# Altium footprint library shortfinder.PcbLib: 21 footprints (part 1 of 2)
Each footprint in its own frame and in the unit in brackets; x right, y up, seen from the top. Pads: shape width x height; smd on the part's side, far side on the other; paste and mask are expansions set on the pad; w line width, h text height; cw(c..) or ccw(c..) is an arc to the next point about the centre after c.
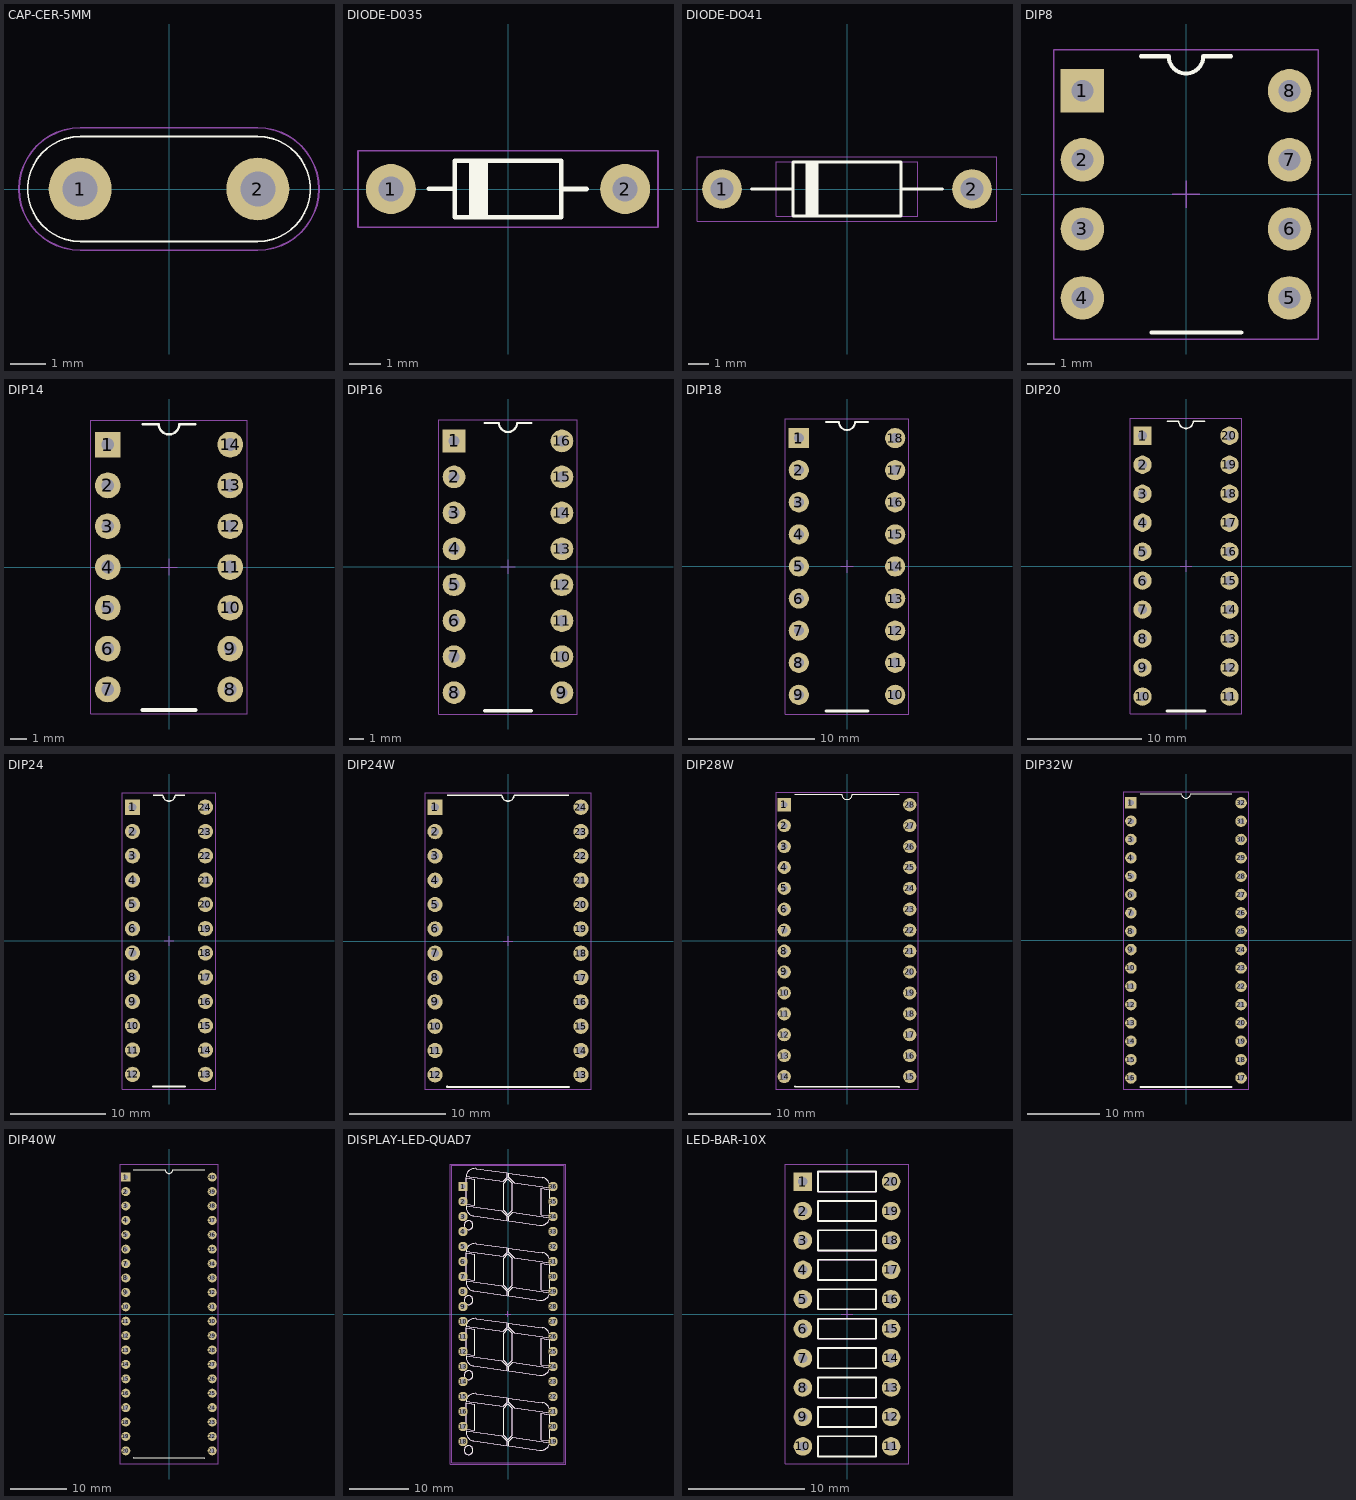
[diagram p0: the footprints below, top view; thin cyan lines are the x and y axes]

## CAP-CER-5MM [mm]
pads (2):
  round 1.8 hole 1 mask+0.1: 1(-2.54,0) 2(2.54,0)
Top Overlay:
  lines w0.05: -2.54,-1.5 cw(c-2.54,0) -2.54,1.5 2.54,1.5 cw(c2.54,0) 2.54,-1.5 -2.54,-1.5
Mechanical 15:
  lines w0.05: -2.54,-1.75 cw(c-2.54,0) -2.54,1.75 2.54,1.75 cw(c2.54,0) 2.54,-1.75 -2.54,-1.75
3D body "User Library-Cap ceramic F=5mm.STEP": height 5.5, standoff -3.5, extent -2.8,-1.25 2.8,1.25

## DIODE-D035 [mm]
pads (2):
  round 1.6 hole 0.8 mask+0.1: 1(-3.75,0) 2(3.75,0)
Top Overlay:
  rectangle: -1.25,-0.9 -0.637,0.925
  lines w0.15: -2.531,0.008 -1.706,0.008 ; 2.525,0 1.7,0 1.7,-0.9 ; 1.7,-0.9 -1.7,-0.9 -1.7,0.9 1.7,0.9 1.7,-0.9
Mechanical 13:
  lines w0.05: -2.425,0 -1.675,0 ; 1.7,0 2.525,0 ; -1.675,-0.9 0.4,-0.9 1.7,-0.9 1.7,0.9 0.4,0.9 -1.675,0.9 -1.675,-0.9
Mechanical 15:
  lines w0.05: -4.8,-1.225 0.175,-1.225 4.8,-1.225 4.8,-0.05 4.8,1.225 -4.8,1.225 -4.8,-1.225

## DIODE-DO41 [mm]
pads (2):
  round 1.9 hole 1.1 mask+0.1: 1(-6,0) 2(6,0)
Top Overlay:
  rectangle: -2,-1.3 -1.375,1.325
  lines w0.15: -4.575,0 -2.6,0 ; 2.6,0 4.575,0 ; 3.15,0 3.8,0 ; -2.6,-1.3 -2.6,1.3 0,1.3 2.6,1.3 2.6,-1.3 0,-1.3 -2.6,-1.3
Mechanical 13:
  lines w0.05: -3.4,-1.3 0,-1.3 3.4,-1.3 3.4,0 3.4,1.3 0,1.3 -3.4,1.3 -3.4,0 -3.4,-1.3
Mechanical 15:
  lines w0.05: -7.2,-1.55 -7.2,1.55 7.2,1.55 7.2,-1.55 -7.2,-1.55

## DIP8 [mm]
pads (8):
  rect 1.6x1.6 hole 0.8 mask+0.1: 1(-3.81,3.81)
  round 1.6 hole 0.8 mask+0.1: 2(-3.81,1.27) 3(-3.81,-1.27) 4(-3.81,-3.81) 5(3.81,-3.81) 6(3.81,-1.27) 7(3.81,1.27) 8(3.81,3.81)
Top Overlay:
  lines w0.15: -1.651,5.08 -0.635,5.08 ccw(c0,5.08) 0.635,5.08 1.651,5.08 ; -1.27,-5.08 2.032,-5.08
Mechanical 15:
  lines w0.05: -0.5,0 0,0 ; 0,-0.5 0,0 ; 0,0.5 0,0 ; 0.5,0 0,0 ; -4.875,-5.325 4.875,-5.325 4.875,5.325 -4.875,5.325 -4.875,-5.325
3D body "User Library-DIP-8P-M01.step": height 4.36, standoff -3, extent -3.935,-4.7 3.935,4.7

## DIP14 [mm]
pads (14):
  rect 1.6x1.6 hole 0.8 mask+0.1: 1(-3.81,7.62)
  round 1.6 hole 0.8 mask+0.1: 2(-3.81,5.08) 3(-3.81,2.54) 4(-3.81,0) 5(-3.81,-2.54) 6(-3.81,-5.08) 7(-3.81,-7.62) 8(3.81,-7.62) 9(3.81,-5.08) 10(3.81,-2.54) 11(3.81,0) 12(3.81,2.54) 13(3.81,5.08) 14(3.81,7.62)
Top Overlay:
  lines w0.15: -1.651,8.89 -0.635,8.89 ccw(c0,8.89) 0.635,8.89 1.651,8.89
  lines w0.254: -1.651,-8.89 1.651,-8.89
Mechanical 15:
  lines w0.05: -0.5,0 0,0 ; 0,-0.5 0,0 ; 0,0.5 0,0 ; 0.5,0 0,0 ; -4.875,-9.15 4.875,-9.15 4.875,9.15 -4.875,9.15 -4.875,-9.15
3D body "User Library-DIP-14P-M02.step": height 4.36, standoff -3, extent -3.933,-9.8 3.937,9.8

## DIP16 [mm]
pads (16):
  rect 1.6x1.6 hole 0.8 mask+0.1: 1(-3.81,8.89)
  round 1.6 hole 0.8 mask+0.1: 2(-3.81,6.35) 3(-3.81,3.81) 4(-3.81,1.27) 5(-3.81,-1.27) 6(-3.81,-3.81) 7(-3.81,-6.35) 8(-3.81,-8.89) 9(3.81,-8.89) 10(3.81,-6.35) 11(3.81,-3.81) 12(3.81,-1.27) 13(3.81,1.27) 14(3.81,3.81) 15(3.81,6.35) 16(3.81,8.89)
Top Overlay:
  lines w0.15: -1.651,10.16 -0.635,10.16 ccw(c0,10.16) 0.635,10.16 1.651,10.16
  lines w0.254: -1.651,-10.16 1.651,-10.16
Mechanical 15:
  lines w0.05: -0.5,0 0,0 ; 0,-0.5 0,0 ; 0,0.5 0,0 ; 0.5,0 0,0 ; -4.875,-10.4 -4.875,10.4 4.875,10.4 4.875,-10.4 -4.875,-10.4
3D body "User Library-DIP-16P-M03.step": height 4.66, standoff -3, extent -3.935,-9.7 3.935,9.7

## DIP18 [mm]
pads (18):
  rect 1.6x1.6 hole 0.8 mask+0.1: 1(-3.81,10.16)
  round 1.6 hole 0.8 mask+0.1: 2(-3.81,7.62) 3(-3.81,5.08) 4(-3.81,2.54) 5(-3.81,0) 6(-3.81,-2.54) 7(-3.81,-5.08) 8(-3.81,-7.62) 9(-3.81,-10.16) 10(3.81,-10.16) 11(3.81,-7.62) 12(3.81,-5.08) 13(3.81,-2.54) 14(3.81,0) 15(3.81,2.54) 16(3.81,5.08) 17(3.81,7.62) 18(3.81,10.16)
Top Overlay:
  lines w0.15: -1.651,11.43 -0.635,11.43 ccw(c0,11.43) 0.635,11.43 1.651,11.43
  lines w0.254: -1.651,-11.43 1.651,-11.43
Mechanical 15:
  lines w0.05: -0.5,0 0,0 ; 0,-0.5 0,0 ; 0,0.5 0,0 ; 0.5,0 0,0 ; -4.875,-11.675 4.875,-11.675 4.875,11.675 -4.875,11.675 -4.875,-11.675
3D body "User Library-DIP-18P-M02.step": height 5, standoff -3, extent -3.935,-11 3.935,11

## DIP20 [mm]
pads (20):
  rect 1.6x1.6 hole 0.8 mask+0.1: 1(-3.81,11.43)
  round 1.6 hole 0.8 mask+0.1: 2(-3.81,8.89) 3(-3.81,6.35) 4(-3.81,3.81) 5(-3.81,1.27) 6(-3.81,-1.27) 7(-3.81,-3.81) 8(-3.81,-6.35) 9(-3.81,-8.89) 10(-3.81,-11.43) 11(3.81,-11.43) 12(3.81,-8.89) 13(3.81,-6.35) 14(3.81,-3.81) 15(3.81,-1.27) 16(3.81,1.27) 17(3.81,3.81) 18(3.81,6.35) 19(3.81,8.89) 20(3.81,11.43)
Top Overlay:
  lines w0.15: -1.651,12.7 -0.635,12.7 ccw(c0,12.7) 0.635,12.7 1.651,12.7
  lines w0.254: -1.651,-12.7 1.651,-12.7
Mechanical 15:
  lines w0.05: -0.5,0 0,0 ; 0,-0.5 0,0 ; 0,0.5 0,0 ; 0.5,0 0,0 ; -4.875,-12.95 -4.875,12.95 4.875,12.95 4.875,-12.95 -4.875,-12.95
3D body "User Library-DIP-20P-M01.step": height 4.36, standoff -3, extent -3.935,-12.3 3.935,12.3

## DIP24 [mm]
pads (24):
  rect 1.6x1.6 hole 0.8 mask+0.1: 1(-3.81,13.97)
  round 1.6 hole 0.8 mask+0.1: 2(-3.81,11.43) 3(-3.81,8.89) 4(-3.81,6.35) 5(-3.81,3.81) 6(-3.81,1.27) 7(-3.81,-1.27) 8(-3.81,-3.81) 9(-3.81,-6.35) 10(-3.81,-8.89) 11(-3.81,-11.43) 12(-3.81,-13.97) 13(3.81,-13.97) 14(3.81,-11.43) 15(3.81,-8.89) 16(3.81,-6.35) 17(3.81,-3.81) 18(3.81,-1.27) 19(3.81,1.27) 20(3.81,3.81) 21(3.81,6.35) 22(3.81,8.89) 23(3.81,11.43) 24(3.81,13.97)
Top Overlay:
  lines w0.15: -1.651,15.24 -0.635,15.24 ccw(c0,15.24) 0.635,15.24 1.651,15.24
  lines w0.254: -1.651,-15.24 1.651,-15.24
Mechanical 15:
  lines w0.05: -0.5,0 0,0 ; 0,-0.5 0,0 ; 0,0.5 0,0 ; 0.5,0 0,0 ; -4.875,-15.5 4.875,-15.5 4.875,15.5 -4.875,15.5 -4.875,-15.5
3D body "User Library-DIP-24P-M03.step": height 4.36, standoff -3, extent -3.935,-14.85 3.935,14.85

## DIP24W [mm]
pads (24):
  rect 1.6x1.6 hole 0.8 mask+0.1: 1(-7.62,13.97)
  round 1.6 hole 0.8 mask+0.1: 2(-7.62,11.43) 3(-7.62,8.89) 4(-7.62,6.35) 5(-7.62,3.81) 6(-7.62,1.27) 7(-7.62,-1.27) 8(-7.62,-3.81) 9(-7.62,-6.35) 10(-7.62,-8.89) 11(-7.62,-11.43) 12(-7.62,-13.97) 13(7.62,-13.97) 14(7.62,-11.43) 15(7.62,-8.89) 16(7.62,-6.35) 17(7.62,-3.81) 18(7.62,-1.27) 19(7.62,1.27) 20(7.62,3.81) 21(7.62,6.35) 22(7.62,8.89) 23(7.62,11.43) 24(7.62,13.97)
Top Overlay:
  lines w0.15: -6.325,15.245 -0.635,15.245 ccw(c0,15.245) 0.635,15.245 6.325,15.245
  lines w0.254: -6.325,-15.2 6.325,-15.24
Mechanical 15:
  lines w0.05: -0.5,0 0,0 ; 0,-0.5 0,0 ; 0,0.5 0,0 ; 0.5,0 0,0 ; -8.675,-15.45 8.675,-15.45 8.675,15.5 -8.675,15.5 -8.675,-15.45
3D body "User Library-DIP-24P-M02.step": height 5, standoff -3, extent -7.745,-15.1 7.745,15.1

## DIP28W [mm]
pads (28):
  rect 1.6x1.6 hole 0.8 mask+0.1: 1(-7.62,16.51)
  round 1.6 hole 0.8 mask+0.1: 2(-7.62,13.97) 3(-7.62,11.43) 4(-7.62,8.89) 5(-7.62,6.35) 6(-7.62,3.81) 7(-7.62,1.27) 8(-7.62,-1.27) 9(-7.62,-3.81) 10(-7.62,-6.35) 11(-7.62,-8.89) 12(-7.62,-11.43) 13(-7.62,-13.97) 14(-7.62,-16.51) 15(7.62,-16.51) 16(7.62,-13.97) 17(7.62,-11.43) 18(7.62,-8.89) 19(7.62,-6.35) 20(7.62,-3.81) 21(7.62,-1.27) 22(7.62,1.27) 23(7.62,3.81) 24(7.62,6.35) 25(7.62,8.89) 26(7.62,11.43) 27(7.62,13.97) 28(7.62,16.51)
Top Overlay:
  lines w0.15: -6.325,17.785 -0.635,17.785 ccw(c0,17.785) 0.635,17.785 6.325,17.785
  lines w0.254: -6.325,-17.74 6.325,-17.78
Mechanical 15:
  lines w0.05: -8.675,-18.025 8.675,-18.025 8.675,18.04 -8.675,18.04 -8.675,-18.025

## DIP32W [mm]
pads (32):
  rect 1.6x1.6 hole 0.8 mask+0.1: 1(-7.62,19.05)
  round 1.6 hole 0.8 mask+0.1: 2(-7.62,16.51) 3(-7.62,13.97) 4(-7.62,11.43) 5(-7.62,8.89) 6(-7.62,6.35) 7(-7.62,3.81) 8(-7.62,1.27) 9(-7.62,-1.27) 10(-7.62,-3.81) 11(-7.62,-6.35) 12(-7.62,-8.89) 13(-7.62,-11.43) 14(-7.62,-13.97) 15(-7.62,-16.51) 16(-7.62,-19.05) 17(7.62,-19.05) 18(7.62,-16.51) 19(7.62,-13.97) 20(7.62,-11.43) 21(7.62,-8.89) 22(7.62,-6.35) 23(7.62,-3.81) 24(7.62,-1.27) 25(7.62,1.27) 26(7.62,3.81) 27(7.62,6.35) 28(7.62,8.89) 29(7.62,11.43) 30(7.62,13.97) 31(7.62,16.51) 32(7.62,19.05)
Top Overlay:
  lines w0.15: -6.325,20.325 -0.635,20.325 ccw(c0,20.325) 0.635,20.325 6.325,20.325
  lines w0.254: -6.325,-20.28 6.325,-20.32
Mechanical 15:
  lines w0.05: -8.675,-20.575 -8.675,20.58 8.675,20.58 8.675,-20.575 -8.675,-20.575

## DIP40W [mm]
pads (40):
  rect 1.6x1.6 hole 0.8 mask+0.1: 1(-7.62,24.13)
  round 1.6 hole 0.8 mask+0.1: 2(-7.62,21.59) 3(-7.62,19.05) 4(-7.62,16.51) 5(-7.62,13.97) 6(-7.62,11.43) 7(-7.62,8.89) 8(-7.62,6.35) 9(-7.62,3.81) 10(-7.62,1.27) 11(-7.62,-1.27) 12(-7.62,-3.81) 13(-7.62,-6.35) 14(-7.62,-8.89) 15(-7.62,-11.43) 16(-7.62,-13.97) 17(-7.62,-16.51) 18(-7.62,-19.05) 19(-7.62,-21.59) 20(-7.62,-24.13) 21(7.62,-24.13) 22(7.62,-21.59) 23(7.62,-19.05) 24(7.62,-16.51) 25(7.62,-13.97) 26(7.62,-11.43) 27(7.62,-8.89) 28(7.62,-6.35) 29(7.62,-3.81) 30(7.62,-1.27) 31(7.62,1.27) 32(7.62,3.81) 33(7.62,6.35) 34(7.62,8.89) 35(7.62,11.43) 36(7.62,13.97) 37(7.62,16.51) 38(7.62,19.05) 39(7.62,21.59) 40(7.62,24.13)
Top Overlay:
  lines w0.15: -6.325,25.405 -0.635,25.405 ccw(c0,25.405) 0.635,25.405 6.325,25.405
  lines w0.254: -6.325,-25.36 6.325,-25.4
Mechanical 15:
  lines w0.05: -8.675,-26.45 8.675,-26.45 8.675,26.45 -8.675,26.45 -8.675,-26.45
3D body "User Library-DIP-40P-M02.step": height 5, standoff -3, extent -7.745,-26.2 7.745,26.2

## DISPLAY-LED-QUAD7 [mm]
pads (36):
  rect 1.6x1.6 hole 0.8 mask+0.1: 1(-7.62,21.59)
  round 1.6 hole 0.8 mask+0.1: 2(-7.62,19.05) 3(-7.62,16.51) 4(-7.62,13.97) 5(-7.62,11.43) 6(-7.62,8.89) 7(-7.62,6.35) 8(-7.62,3.81) 9(-7.62,1.27) 10(-7.62,-1.27) 11(-7.62,-3.81) 12(-7.62,-6.35) 13(-7.62,-8.89) 14(-7.62,-11.43) 15(-7.62,-13.97) 16(-7.62,-16.51) 17(-7.62,-19.05) 18(-7.62,-21.59) 19(7.62,-21.59) 20(7.62,-19.05) 21(7.62,-16.51) 22(7.62,-13.97) 23(7.62,-11.43) 24(7.62,-8.89) 25(7.62,-6.35) 26(7.62,-3.81) 27(7.62,-1.27) 28(7.62,1.27) 29(7.62,3.81) 30(7.62,6.35) 31(7.62,8.89) 32(7.62,11.43) 33(7.62,13.97) 34(7.62,16.51) 35(7.62,19.05) 36(7.62,21.59)
Top Overlay:
  circle w0.15: c-6.678,15.04 r0.75
  circle w0.15: c-6.678,2.34 r0.75
  circle w0.15: c-6.678,-10.36 r0.75
  circle w0.15: c-6.678,-23.06 r0.75
  lines w0.15: -7.1,-19.79 -1.081,-20.636 -0.15,-21.567 -0.15,-22.281 -5.809,-21.486 cw(c-5.6,-20.001) -7.086,-19.792 ; -7.1,-7.09 -1.081,-7.936 -0.15,-8.867 -0.15,-9.581 -5.809,-8.786 cw(c-5.6,-7.301) -7.086,-7.092 ; -7.1,5.61 -1.081,4.764 -0.15,3.833 -0.15,3.119 -5.809,3.914 cw(c-5.6,5.399) -7.086,5.608 ; -7.1,18.31 -1.081,17.464 -0.15,16.533 -0.15,15.819 -5.809,16.614 cw(c-5.6,18.099) -7.086,18.308 ; 5.809,-15.04 0.15,-14.245 0.15,-14.959 1.081,-15.89 7.1,-16.736 ccw(c5.6,-16.526) 5.811,-15.026 ; 5.809,-2.34 0.15,-1.545 0.15,-2.259 1.081,-3.19 7.1,-4.036 ccw(c5.6,-3.826) 5.811,-2.326 ; 5.809,10.36 0.15,11.155 0.15,10.441 1.081,9.51 7.1,8.664 ccw(c5.6,8.874) 5.811,10.374 ; 5.809,23.06 0.15,23.855 0.15,23.141 1.081,22.21 7.1,21.364 ccw(c5.6,21.574) 5.811,23.074 ; -7.1,-19.487 -5.6,-19.698 -5.6,-15.254 -7.1,-15.044 -7.1,-19.487 ; -7.1,-6.787 -5.6,-6.998 -5.6,-2.554 -7.1,-2.344 -7.1,-6.787 ; -7.1,5.913 -5.6,5.702 -5.6,10.146 -7.1,10.356 -7.1,5.913 ; -7.1,18.613 -5.6,18.402 -5.6,22.846 -7.1,23.056 -7.1,18.613 ; -7.086,-14.743 cw(c-5.6,-14.952) -5.391,-13.466 -0.15,-14.203 -0.15,-14.959 -0.815,-15.624 -7.086,-14.743 ; -7.086,-2.043 cw(c-5.6,-2.252) -5.391,-0.766 -0.15,-1.503 -0.15,-2.259 -0.815,-2.924 -7.086,-2.043 ; -7.086,10.657 cw(c-5.6,10.448) -5.391,11.934 -0.15,11.197 -0.15,10.441 -0.815,9.776 -7.086,10.657 ; -7.086,23.357 cw(c-5.6,23.148) -5.391,24.634 -0.15,23.897 -0.15,23.141 -0.815,22.476 -7.086,23.357 ; -0.75,-20.543 -0.75,-15.984 0,-15.234 0.75,-15.984 0.75,-20.543 0,-21.293 -0.75,-20.543 ; -0.75,-7.843 -0.75,-3.284 0,-2.534 0.75,-3.284 0.75,-7.843 0,-8.593 -0.75,-7.843 ; -0.75,4.857 -0.75,9.416 0,10.166 0.75,9.416 0.75,4.857 0,4.107 -0.75,4.857 ; -0.75,17.557 -0.75,22.116 0,22.866 0.75,22.116 0.75,17.557 0,16.807 -0.75,17.557 ; 0.15,-22.324 5.391,-23.06 ccw(c5.6,-21.575) 7.085,-21.784 0.815,-20.902 0.15,-21.567 0.15,-22.324 ; 0.15,-9.624 5.391,-10.36 ccw(c5.6,-8.875) 7.085,-9.084 0.815,-8.202 0.15,-8.867 0.15,-9.624 ; 0.15,3.076 5.391,2.34 ccw(c5.6,3.825) 7.085,3.616 0.815,4.498 0.15,3.833 0.15,3.076 ; 0.15,15.776 5.391,15.04 ccw(c5.6,16.525) 7.085,16.316 0.815,17.198 0.15,16.533 0.15,15.776 ; 5.6,-21.272 7.1,-21.483 7.1,-17.039 5.6,-16.829 5.6,-21.272 ; 5.6,-8.572 7.1,-8.783 7.1,-4.339 5.6,-4.129 5.6,-8.572 ; 5.6,4.128 7.1,3.917 7.1,8.361 5.6,8.571 5.6,4.128 ; 5.6,16.828 7.1,16.617 7.1,21.061 5.6,21.271 5.6,16.828
Mechanical 13:
  circle w0.05: c-6.678,-23.06 r0.75
  circle w0.05: c-6.678,-10.36 r0.75
  circle w0.05: c-6.678,2.34 r0.75
  circle w0.05: c-6.678,15.04 r0.75
  lines w0.05: -7.1,-19.79 -1.081,-20.636 -0.15,-21.567 -0.15,-22.281 -5.809,-21.486 cw(c-5.6,-20.001) -7.086,-19.792 ; -7.1,-7.09 -1.081,-7.936 -0.15,-8.867 -0.15,-9.581 -5.809,-8.786 cw(c-5.6,-7.301) -7.086,-7.092 ; -7.1,5.61 -1.081,4.764 -0.15,3.833 -0.15,3.119 -5.809,3.914 cw(c-5.6,5.399) -7.086,5.608 ; -7.1,18.31 -1.081,17.464 -0.15,16.533 -0.15,15.819 -5.809,16.614 cw(c-5.6,18.099) -7.086,18.308 ; 5.809,-15.04 0.15,-14.245 0.15,-14.959 1.081,-15.89 7.1,-16.736 ccw(c5.6,-16.526) 5.811,-15.026 ; 5.809,-2.34 0.15,-1.545 0.15,-2.259 1.081,-3.19 7.1,-4.036 ccw(c5.6,-3.826) 5.811,-2.326 ; 5.809,10.36 0.15,11.155 0.15,10.441 1.081,9.51 7.1,8.664 ccw(c5.6,8.874) 5.811,10.374 ; 5.809,23.06 0.15,23.855 0.15,23.141 1.081,22.21 7.1,21.364 ccw(c5.6,21.574) 5.811,23.074 ; -9.5,-25.15 9.5,-25.15 9.5,25.15 -9.5,25.15 -9.5,-25.15 ; -7.1,-19.487 -7.1,-15.044 -5.6,-15.254 -5.6,-19.698 -7.1,-19.487 ; -7.1,-6.787 -7.1,-2.344 -5.6,-2.554 -5.6,-6.998 -7.1,-6.787 ; -7.1,5.913 -7.1,10.356 -5.6,10.146 -5.6,5.702 -7.1,5.913 ; -7.1,18.613 -7.1,23.056 -5.6,22.846 -5.6,18.402 -7.1,18.613 ; -7.086,-14.743 cw(c-5.6,-14.952) -5.391,-13.466 -0.15,-14.203 -0.15,-14.959 -0.815,-15.624 -7.086,-14.743 ; -7.086,-2.043 cw(c-5.6,-2.252) -5.391,-0.766 -0.15,-1.503 -0.15,-2.259 -0.815,-2.924 -7.086,-2.043 ; -7.086,10.657 cw(c-5.6,10.448) -5.391,11.934 -0.15,11.197 -0.15,10.441 -0.815,9.776 -7.086,10.657 ; -7.086,23.357 cw(c-5.6,23.148) -5.391,24.634 -0.15,23.897 -0.15,23.141 -0.815,22.476 -7.086,23.357 ; -0.75,-20.543 0,-21.293 0.75,-20.543 0.75,-15.984 0,-15.234 -0.75,-15.984 -0.75,-20.543 ; -0.75,-7.843 0,-8.593 0.75,-7.843 0.75,-3.284 0,-2.534 -0.75,-3.284 -0.75,-7.843 ; -0.75,4.857 0,4.107 0.75,4.857 0.75,9.416 0,10.166 -0.75,9.416 -0.75,4.857 ; -0.75,17.557 0,16.807 0.75,17.557 0.75,22.116 0,22.866 -0.75,22.116 -0.75,17.557 ; 0.15,-22.324 0.15,-21.567 0.815,-20.902 7.085,-21.784 cw(c5.6,-21.575) 5.391,-23.06 0.15,-22.324 ; 0.15,-9.624 0.15,-8.867 0.815,-8.202 7.085,-9.084 cw(c5.6,-8.875) 5.391,-10.36 0.15,-9.624 ; 0.15,3.076 0.15,3.833 0.815,4.498 7.085,3.616 cw(c5.6,3.825) 5.391,2.34 0.15,3.076 ; 0.15,15.776 0.15,16.533 0.815,17.198 7.085,16.316 cw(c5.6,16.525) 5.391,15.04 0.15,15.776 ; 5.6,-21.272 5.6,-16.829 7.1,-17.039 7.1,-21.483 5.6,-21.272 ; 5.6,-8.572 5.6,-4.129 7.1,-4.339 7.1,-8.783 5.6,-8.572 ; 5.6,4.128 5.6,8.571 7.1,8.361 7.1,3.917 5.6,4.128 ; 5.6,16.828 5.6,21.271 7.1,21.061 7.1,16.617 5.6,16.828
Mechanical 15:
  lines w0.05: -0.5,0 0,0 ; 0,-0.5 0,0 ; 0,0.5 0,0 ; 0,0 0.5,0 ; 0.5,0 0.5,0 ; -9.75,-25.4 -9.75,25.4 9.75,25.4 9.75,-25.4 -9.75,-25.4
3D body "end-el-san Co Ltd-King Bright CA56-11.step": height 8.11, standoff -3.99, extent -9.5,-25.15 9.5,25.15

## LED-BAR-10X [mm]
pads (20):
  rect 1.6x1.6 hole 0.8 mask+0.1: 1(-3.81,11.43)
  round 1.6 hole 0.8 mask+0.1: 2(-3.81,8.89) 3(-3.81,6.35) 4(-3.81,3.81) 5(-3.81,1.27) 6(-3.81,-1.27) 7(-3.81,-3.81) 8(-3.81,-6.35) 9(-3.81,-8.89) 10(-3.81,-11.43) 11(3.81,-11.43) 12(3.81,-8.89) 13(3.81,-6.35) 14(3.81,-3.81) 15(3.81,-1.27) 16(3.81,1.27) 17(3.81,3.81) 18(3.81,6.35) 19(3.81,8.89) 20(3.81,11.43)
Top Overlay:
  lines w0.15: -2.5,-12.3 2.5,-12.3 2.5,-10.56 -2.5,-10.56 -2.5,-12.3 ; -2.5,-9.76 2.5,-9.76 2.5,-8.02 -2.5,-8.02 -2.5,-9.76 ; -2.5,-7.22 2.5,-7.22 2.5,-5.48 -2.5,-5.48 -2.5,-7.22 ; -2.5,-4.68 2.5,-4.68 2.5,-2.94 -2.5,-2.94 -2.5,-4.68 ; -2.5,-2.14 2.5,-2.14 2.5,-0.4 -2.5,-0.4 -2.5,-2.14 ; -2.5,0.4 2.5,0.4 2.5,2.14 -2.5,2.14 -2.5,0.4 ; -2.5,2.94 2.5,2.94 2.5,4.68 -2.5,4.68 -2.5,2.94 ; -2.5,5.48 2.5,5.48 2.5,7.22 -2.5,7.22 -2.5,5.48 ; -2.5,8.02 2.5,8.02 2.5,9.76 -2.5,9.76 -2.5,8.02 ; -2.5,10.56 2.5,10.56 2.5,12.3 -2.5,12.3 -2.5,10.56
Mechanical 13:
  lines w0.05: -2.5,-12.3 -2.5,-10.56 2.5,-10.56 2.5,-12.3 -2.5,-12.3 ; -2.5,-9.76 2.5,-9.76 2.5,-8.02 -2.5,-8.02 -2.5,-9.76 ; -2.5,-7.22 2.5,-7.22 2.5,-5.48 -2.5,-5.48 -2.5,-7.22 ; -2.5,-4.68 2.5,-4.68 2.5,-2.94 -2.5,-2.94 -2.5,-4.68 ; -2.5,-2.14 2.5,-2.14 2.5,-0.4 -2.5,-0.4 -2.5,-2.14 ; -2.5,0.4 2.5,0.4 2.5,2.14 -2.5,2.14 -2.5,0.4 ; -2.5,2.94 2.5,2.94 2.5,4.68 -2.5,4.68 -2.5,2.94 ; -2.5,5.48 2.5,5.48 2.5,7.22 -2.5,7.22 -2.5,5.48 ; -2.5,8.02 2.5,8.02 2.5,9.76 -2.5,9.76 -2.5,8.02 ; -2.5,10.56 2.5,10.56 2.5,12.3 -2.5,12.3 -2.5,10.56
Mechanical 15:
  lines w0.05: 0,0 0.5,0 0,0 ; 0,0 0,0.5 0,0 ; 0,0 -0.5,0 0,0 ; 0,0 0,-0.5 0,0 ; -5.325,-12.95 5.325,-12.95 5.325,12.95 -5.325,12.95 -5.325,-12.95
3D body "User Library-10 Segment Bar Graph or LED Array.step": height 6.8, standoff -7, extent -5.08,-12.7 5.08,12.7

## PCBComponent_1 [mm]